# Altium schematic symbol library Connectors Table.SchLib: 22 symbols
Pins are listed as number, name and electrical type; pins without a type are passive.

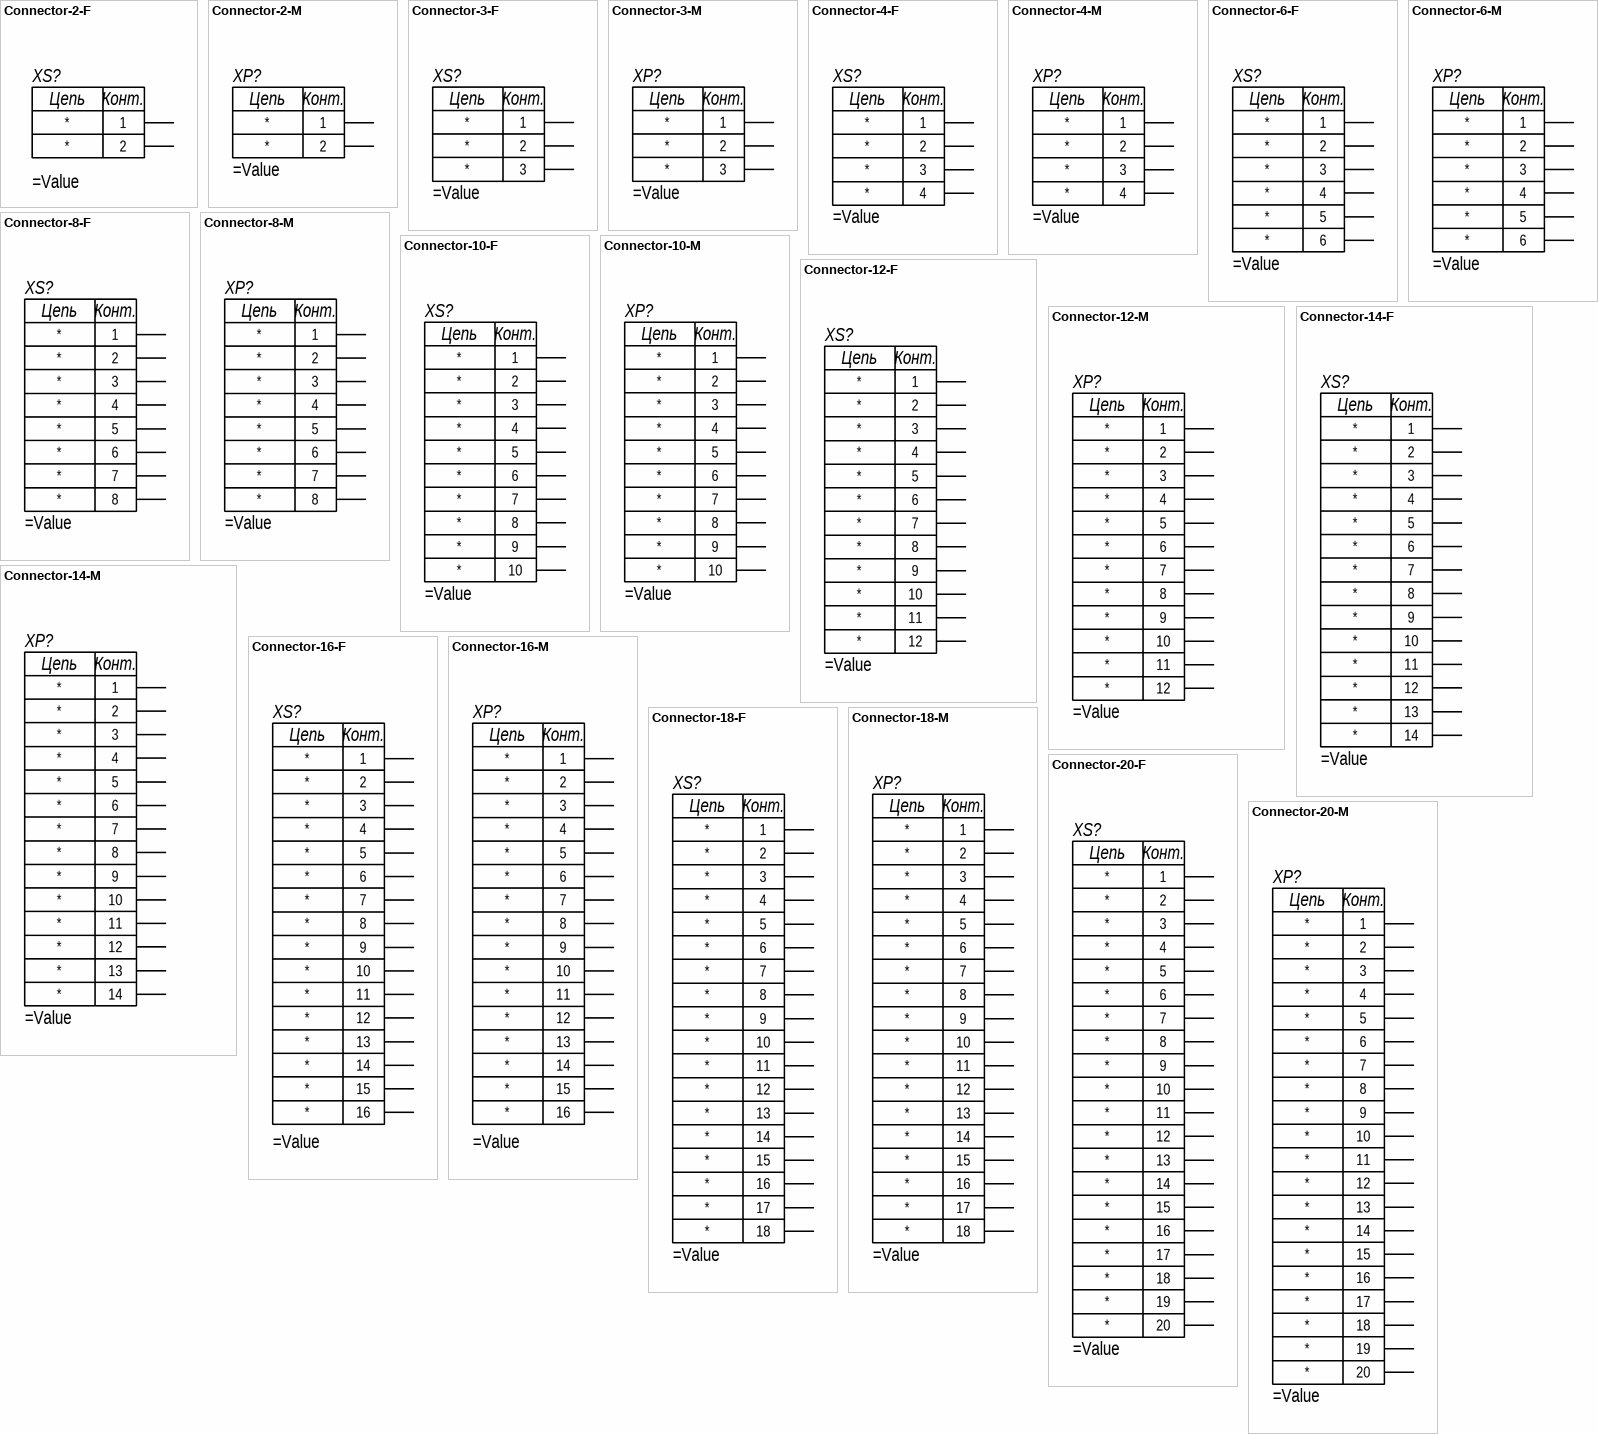
[diagram p0: symbols Connector-2-F to Connector-20-M]

## Connector-2-F
designator XS?
Цепь_1: *; Цепь_2: *
pins: 1, 2
text: Цепь; Конт.

## Connector-2-M
designator XP?
Цепь_1: *; Цепь_2: *
pins: 1, 2
text: Цепь; Конт.

## Connector-3-F
designator XS?
Цепь_1: *; Цепь_2: *; Цепь_3: *
pins: 1, 2, 3
text: Цепь; Конт.

## Connector-3-M
designator XP?
Цепь_1: *; Цепь_2: *; Цепь_3: *
pins: 1, 2, 3
text: Цепь; Конт.

## Connector-4-F
designator XS?
Цепь_1: *; Цепь_2: *; Цепь_3: *; Цепь_4: *
pins: 1, 2, 3, 4
text: Цепь; Конт.

## Connector-4-M
designator XP?
Цепь_1: *; Цепь_2: *; Цепь_3: *; Цепь_4: *
pins: 1, 2, 3, 4
text: Цепь; Конт.

## Connector-6-F
designator XS?
Цепь_1: *; Цепь_2: *; Цепь_3: *; Цепь_4: *; Цепь_5: *; Цепь_6: *
pins: 1, 2, 3, 4, 5, 6
text: Цепь; Конт.

## Connector-6-M
designator XP?
Цепь_1: *; Цепь_2: *; Цепь_3: *; Цепь_4: *; Цепь_5: *; Цепь_6: *
pins: 1, 2, 3, 4, 5, 6
text: Цепь; Конт.

## Connector-8-F
designator XS?
Цепь_1: *; Цепь_2: *; Цепь_3: *; Цепь_4: *; Цепь_5: *; Цепь_6: *; Цепь_7: *; Цепь_8: *
pins: 1, 2, 3, 4, 5, 6, 7, 8
text: Цепь; Конт.

## Connector-8-M
designator XP?
Цепь_1: *; Цепь_2: *; Цепь_3: *; Цепь_4: *; Цепь_5: *; Цепь_6: *; Цепь_7: *; Цепь_8: *
pins: 1, 2, 3, 4, 5, 6, 7, 8
text: Цепь; Конт.

## Connector-10-F
designator XS?
Цепь_1: *; Цепь_2: *; Цепь_3: *; Цепь_4: *; Цепь_5: *; Цепь_6: *; Цепь_7: *; Цепь_8: *; Цепь_9: *; Цепь_10: *
pins: 1, 2, 3, 4, 5, 6, 7, 8, 9, 10
text: Цепь; Конт.

## Connector-10-M
designator XP?
Цепь_1: *; Цепь_2: *; Цепь_3: *; Цепь_4: *; Цепь_5: *; Цепь_6: *; Цепь_7: *; Цепь_8: *; Цепь_9: *; Цепь_10: *
pins: 1, 2, 3, 4, 5, 6, 7, 8, 9, 10
text: Цепь; Конт.

## Connector-12-F
designator XS?
Цепь_1: *; Цепь_2: *; Цепь_3: *; Цепь_4: *; Цепь_5: *; Цепь_6: *; Цепь_7: *; Цепь_8: *; Цепь_9: *; Цепь_10: *; Цепь_11: *; Цепь_12: *
pins: 1, 2, 3, 4, 5, 6, 7, 8, 9, 10, 11, 12
text: Цепь; Конт.

## Connector-12-M
designator XP?
Цепь_1: *; Цепь_2: *; Цепь_3: *; Цепь_4: *; Цепь_5: *; Цепь_6: *; Цепь_7: *; Цепь_8: *; Цепь_9: *; Цепь_10: *; Цепь_11: *; Цепь_12: *
pins: 1, 2, 3, 4, 5, 6, 7, 8, 9, 10, 11, 12
text: Цепь; Конт.

## Connector-14-F
designator XS?
Цепь_1: *; Цепь_2: *; Цепь_3: *; Цепь_4: *; Цепь_5: *; Цепь_6: *; Цепь_7: *; Цепь_8: *; Цепь_9: *; Цепь_10: *; Цепь_11: *; Цепь_12: *; Цепь_13: *; Цепь_14: *
pins: 1, 2, 3, 4, 5, 6, 7, 8, 9, 10, 11, 12, 13, 14
text: Цепь; Конт.

## Connector-14-M
designator XP?
Цепь_1: *; Цепь_2: *; Цепь_3: *; Цепь_4: *; Цепь_5: *; Цепь_6: *; Цепь_7: *; Цепь_8: *; Цепь_9: *; Цепь_10: *; Цепь_11: *; Цепь_12: *; Цепь_13: *; Цепь_14: *
pins: 1, 2, 3, 4, 5, 6, 7, 8, 9, 10, 11, 12, 13, 14
text: Цепь; Конт.

## Connector-16-F
designator XS?
Цепь_1: *; Цепь_2: *; Цепь_3: *; Цепь_4: *; Цепь_5: *; Цепь_6: *; Цепь_7: *; Цепь_8: *; Цепь_9: *; Цепь_10: *; Цепь_11: *; Цепь_12: *; Цепь_13: *; Цепь_14: *; Цепь_15: *; Цепь_16: *
pins: 1, 2, 3, 4, 5, 6, 7, 8, 9, 10, 11, 12, 13, 14, 15, 16
text: Цепь; Конт.

## Connector-16-M
designator XP?
Цепь_1: *; Цепь_2: *; Цепь_3: *; Цепь_4: *; Цепь_5: *; Цепь_6: *; Цепь_7: *; Цепь_8: *; Цепь_9: *; Цепь_10: *; Цепь_11: *; Цепь_12: *; Цепь_13: *; Цепь_14: *; Цепь_15: *; Цепь_16: *
pins: 1, 2, 3, 4, 5, 6, 7, 8, 9, 10, 11, 12, 13, 14, 15, 16
text: Цепь; Конт.

## Connector-18-F
designator XS?
Цепь_1: *; Цепь_2: *; Цепь_3: *; Цепь_4: *; Цепь_5: *; Цепь_6: *; Цепь_7: *; Цепь_8: *; Цепь_9: *; Цепь_10: *; Цепь_11: *; Цепь_12: *; Цепь_13: *; Цепь_14: *; Цепь_15: *; Цепь_16: *; Цепь_17: *; Цепь_18: *
pins: 1, 2, 3, 4, 5, 6, 7, 8, 9, 10, 11, 12, 13, 14, 15, 16, 17, 18
text: Цепь; Конт.

## Connector-18-M
designator XP?
Цепь_1: *; Цепь_2: *; Цепь_3: *; Цепь_4: *; Цепь_5: *; Цепь_6: *; Цепь_7: *; Цепь_8: *; Цепь_9: *; Цепь_10: *; Цепь_11: *; Цепь_12: *; Цепь_13: *; Цепь_14: *; Цепь_15: *; Цепь_16: *; Цепь_17: *; Цепь_18: *
pins: 1, 2, 3, 4, 5, 6, 7, 8, 9, 10, 11, 12, 13, 14, 15, 16, 17, 18
text: Цепь; Конт.

## Connector-20-F
designator XS?
Цепь_1: *; Цепь_2: *; Цепь_3: *; Цепь_4: *; Цепь_5: *; Цепь_6: *; Цепь_7: *; Цепь_8: *; Цепь_9: *; Цепь_10: *; Цепь_11: *; Цепь_12: *; Цепь_13: *; Цепь_14: *; Цепь_15: *; Цепь_16: *; Цепь_17: *; Цепь_18: *; Цепь_19: *; Цепь_20: *
pins: 1, 2, 3, 4, 5, 6, 7, 8, 9, 10, 11, 12, 13, 14, 15, 16, 17, 18, 19, 20
text: Цепь; Конт.

## Connector-20-M
designator XP?
Цепь_1: *; Цепь_2: *; Цепь_3: *; Цепь_4: *; Цепь_5: *; Цепь_6: *; Цепь_7: *; Цепь_8: *; Цепь_9: *; Цепь_10: *; Цепь_11: *; Цепь_12: *; Цепь_13: *; Цепь_14: *; Цепь_15: *; Цепь_16: *; Цепь_17: *; Цепь_18: *; Цепь_19: *; Цепь_20: *
pins: 1, 2, 3, 4, 5, 6, 7, 8, 9, 10, 11, 12, 13, 14, 15, 16, 17, 18, 19, 20
text: Цепь; Конт.